# EAGLE library part CAM_CON (library SUCHAI)
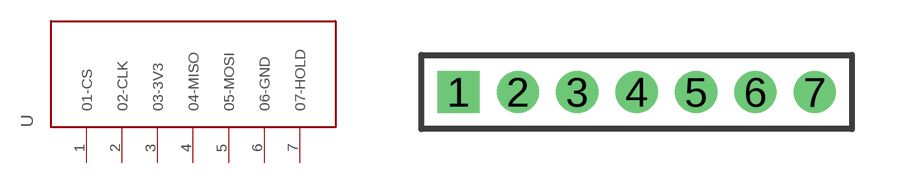
[diagram p1: symbol with the pads of 1X07-2P; footprint 1X07-2P]

Designator prefix -

## CAM_CON  [1X07-2P]
1  01-CS
2  02-CLK
3  03-3V3
4  04-MISO
5  05-MOSI
6  06-GND
7  07-HOLD

## Footprint 1X07-2P (pad centres in mm)
Hole pattern for Electronics123.com's C329 Camera Pitch : 2 mm / 0.07874 inches Diameter : auto Drill : 0.9144 mm / 0.036 inches
drill 0.914 square: 1 -6,0
drill 0.914 round: 2 -4,0; 3 -2,0; 4 0,0; 5 2,0; 6 4,0; 7 6,0